# EAGLE library part C8051F351 (library micro-silabs)
50 MIPS, 8 kB Flash, 24-Bit ADC MCU
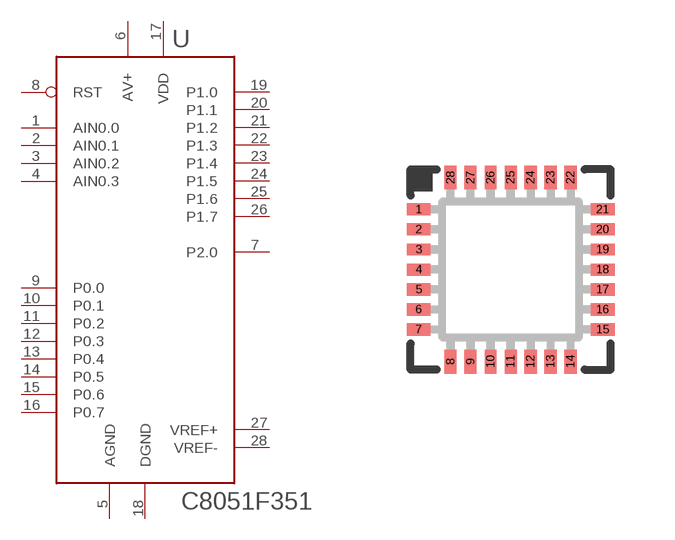
[diagram p2: symbol with the pads of MLP28; footprint MLP28]

Designator prefix -

## C8051F351  [MLP28]
1  AIN0.0
2  AIN0.1
3  AIN0.2
4  AIN0.3
5  AGND  pwr
6  AV+  pwr
7  P2.0
8  RST
9  P0.0
10  P0.1
11  P0.2
12  P0.3
13  P0.4
14  P0.5
15  P0.6
16  P0.7
17  VDD  pwr
18  DGND  pwr
19  P1.0
20  P1.1
21  P1.2
22  P1.3
23  P1.4
24  P1.5
25  P1.6
26  P1.7
27  VREF+
28  VREF-

## Footprint MLP28 (pad centres in mm)
Cygnal MLP28
smd 0.6 x 0.3: 1 -2.3,1.5; 2 -2.3,1; 3 -2.3,0.5; 4 -2.3,0; 5 -2.3,-0.5; 6 -2.3,-1; 7 -2.3,-1.5; 15 2.3,-1.5; 16 2.3,-1; 17 2.3,-0.5; 18 2.3,0; 19 2.3,0.5; 20 2.3,1; 21 2.3,1.5
smd 0.3 x 0.6: 8 -1.5,-2.3; 9 -1,-2.3; 10 -0.5,-2.3; 11 0,-2.3; 12 0.5,-2.3; 13 1,-2.3; 14 1.5,-2.3; 22 1.5,2.3; 23 1,2.3; 24 0.5,2.3; 25 0,2.3; 26 -0.5,2.3; 27 -1,2.3; 28 -1.5,2.3